# Altium schematic symbol library kmilo17pet-NSC_Interface.SchLib: 1433 symbols (part 40 of 51)
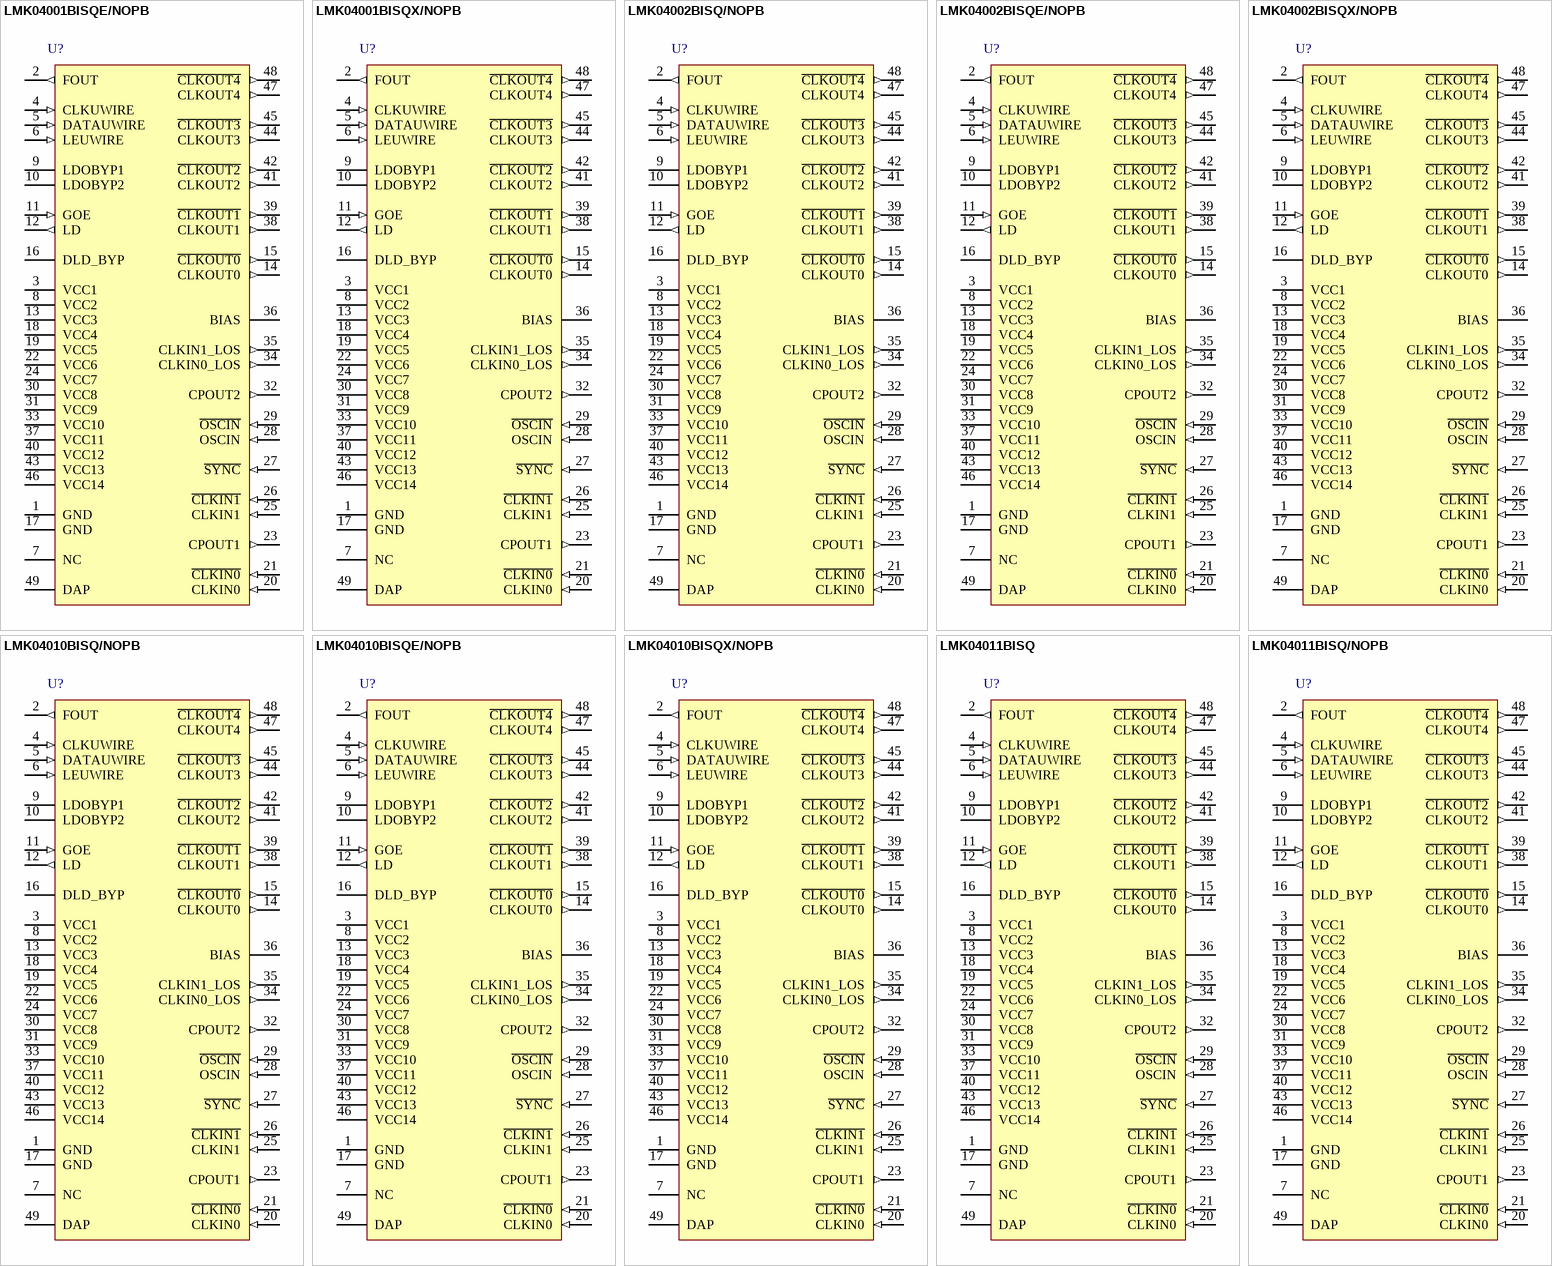
[diagram p163: symbols LMK04001BISQE/NOPB to LMK04011BISQ/NOPB]

## LMK04002BISQX/NOPB
designator U?
Low-Noise Clock Jitter Cleaner with Cascaded PLLs, 48-pin LLP, Pb-Free; PartNumber: LMK04002BISQX/NOPB; Manufacturer: National Semiconductor; PackageTopMarking: NS*UZXYTTE#*K04002BI; PowerWise: Y; CompType: Interface IC; DatasheetVersion: Jul-2009; PackageVersion: revB, May-2009; PackageReference: SQA48A; PackageDescription: LLP, Plastic, Quad, 7 x 7 x 0.8mm Body, 48 Lead, 0.5mm Pitch, No Pullback; RoHS: Y; PinCount: 48; High-Reliability: Y; Code_JEDEC: MO-220-WKKD-2; ComponentLink1Description: Manufacturer URL; ComponentLink1URL: http://www.national.com/; ComponentLink2Description: LMK04002 Datasheet; ComponentLink2URL: http://www.national.com/ds/LM/LMK04002.pdf; ComponentLink3Description: LMK04002 Web Page; ComponentLink3URL: http://www.national.com/pf/LM/LMK04002.html; ComponentLink4Description: SQA48A Package Page; ComponentLink4URL: http://www.national.com/packaging/folders/sqa48a.html
footprint SQA48A (QFN, 48-Leads, Body 7x7mm, Pitch 0.5mm, Thermal Pad 5.2x5.2mm, NSC Recommended)
pins: 1 GND (power), 2 FOUT (out), 3 VCC1 (power), 4 CLKUWIRE (in), 5 DATAUWIRE (in), 6 LEUWIRE (in), 7 NC, 8 VCC2 (power), 9 LDOBYP1, 10 LDOBYP2, 11 GOE (in), 12 LD (out), 13 VCC3 (power), 14 CLKOUT0 (out), 15 ~{CLKOUT0} (out), 16 DLD_BYP (power), 17 GND (power), 18 VCC4 (power), 19 VCC5 (power), 20 CLKIN0 (in), 21 ~{CLKIN0} (in), 22 VCC6 (power), 23 CPOUT1 (out), 24 VCC7 (power), 25 CLKIN1 (in), 26 ~{CLKIN1} (in), 27 ~{SYNC} (in), 28 OSCIN (in), 29 ~{OSCIN} (in), 30 VCC8 (power), 31 VCC9 (power), 32 CPOUT2 (out), 33 VCC10 (power), 34 CLKIN0_LOS (out), 35 CLKIN1_LOS (out), 36 BIAS, 37 VCC11 (power), 38 CLKOUT1 (out), 39 ~{CLKOUT1} (out), 40 VCC12 (power), 41 CLKOUT2 (out), 42 ~{CLKOUT2} (out), 43 VCC13 (power), 44 CLKOUT3 (out), 45 ~{CLKOUT3} (out), 46 VCC14 (power), 47 CLKOUT4 (out), 48 ~{CLKOUT4} (out), 49 DAP (power)

## LMK04010BISQ/NOPB
designator U?
Low-Noise Clock Jitter Cleaner with Cascaded PLLs, 48-pin LLP, Pb-Free; PartNumber: LMK04010BISQ/NOPB; Manufacturer: National Semiconductor; PackageTopMarking: NS*UZXYTTE#*K04010BI; PowerWise: Y; CompType: Interface IC; DatasheetVersion: Jul-2009; PackageVersion: revB, May-2009; PackageReference: SQA48A; PackageDescription: LLP, Plastic, Quad, 7 x 7 x 0.8mm Body, 48 Lead, 0.5mm Pitch, No Pullback; RoHS: Y; PinCount: 48; High-Reliability: Y; Code_JEDEC: MO-220-WKKD-2; ComponentLink1Description: Manufacturer URL; ComponentLink1URL: http://www.national.com/; ComponentLink2Description: LMK04010 Datasheet; ComponentLink2URL: http://www.national.com/ds/LM/LMK04010.pdf; ComponentLink3Description: LMK04010 Web Page; ComponentLink3URL: http://www.national.com/pf/LM/LMK04010.html; ComponentLink4Description: SQA48A Package Page; ComponentLink4URL: http://www.national.com/packaging/folders/sqa48a.html
footprint SQA48A (QFN, 48-Leads, Body 7x7mm, Pitch 0.5mm, Thermal Pad 5.2x5.2mm, NSC Recommended)
pins: 1 GND (power), 2 FOUT (out), 3 VCC1 (power), 4 CLKUWIRE (in), 5 DATAUWIRE (in), 6 LEUWIRE (in), 7 NC, 8 VCC2 (power), 9 LDOBYP1, 10 LDOBYP2, 11 GOE (in), 12 LD (out), 13 VCC3 (power), 14 CLKOUT0 (out), 15 ~{CLKOUT0} (out), 16 DLD_BYP (power), 17 GND (power), 18 VCC4 (power), 19 VCC5 (power), 20 CLKIN0 (in), 21 ~{CLKIN0} (in), 22 VCC6 (power), 23 CPOUT1 (out), 24 VCC7 (power), 25 CLKIN1 (in), 26 ~{CLKIN1} (in), 27 ~{SYNC} (in), 28 OSCIN (in), 29 ~{OSCIN} (in), 30 VCC8 (power), 31 VCC9 (power), 32 CPOUT2 (out), 33 VCC10 (power), 34 CLKIN0_LOS (out), 35 CLKIN1_LOS (out), 36 BIAS, 37 VCC11 (power), 38 CLKOUT1 (out), 39 ~{CLKOUT1} (out), 40 VCC12 (power), 41 CLKOUT2 (out), 42 ~{CLKOUT2} (out), 43 VCC13 (power), 44 CLKOUT3 (out), 45 ~{CLKOUT3} (out), 46 VCC14 (power), 47 CLKOUT4 (out), 48 ~{CLKOUT4} (out), 49 DAP (power)

## LMK04010BISQE/NOPB
designator U?
Low-Noise Clock Jitter Cleaner with Cascaded PLLs, 48-pin LLP, Pb-Free; PartNumber: LMK04010BISQE/NOPB; Manufacturer: National Semiconductor; PackageTopMarking: NS*UZXYTTE#*K04010BI; PowerWise: Y; CompType: Interface IC; DatasheetVersion: Jul-2009; PackageVersion: revB, May-2009; PackageReference: SQA48A; PackageDescription: LLP, Plastic, Quad, 7 x 7 x 0.8mm Body, 48 Lead, 0.5mm Pitch, No Pullback; RoHS: Y; PinCount: 48; High-Reliability: Y; Code_JEDEC: MO-220-WKKD-2; ComponentLink1Description: Manufacturer URL; ComponentLink1URL: http://www.national.com/; ComponentLink2Description: LMK04010 Datasheet; ComponentLink2URL: http://www.national.com/ds/LM/LMK04010.pdf; ComponentLink3Description: LMK04010 Web Page; ComponentLink3URL: http://www.national.com/pf/LM/LMK04010.html; ComponentLink4Description: SQA48A Package Page; ComponentLink4URL: http://www.national.com/packaging/folders/sqa48a.html
footprint SQA48A (QFN, 48-Leads, Body 7x7mm, Pitch 0.5mm, Thermal Pad 5.2x5.2mm, NSC Recommended)
pins: 1 GND (power), 2 FOUT (out), 3 VCC1 (power), 4 CLKUWIRE (in), 5 DATAUWIRE (in), 6 LEUWIRE (in), 7 NC, 8 VCC2 (power), 9 LDOBYP1, 10 LDOBYP2, 11 GOE (in), 12 LD (out), 13 VCC3 (power), 14 CLKOUT0 (out), 15 ~{CLKOUT0} (out), 16 DLD_BYP (power), 17 GND (power), 18 VCC4 (power), 19 VCC5 (power), 20 CLKIN0 (in), 21 ~{CLKIN0} (in), 22 VCC6 (power), 23 CPOUT1 (out), 24 VCC7 (power), 25 CLKIN1 (in), 26 ~{CLKIN1} (in), 27 ~{SYNC} (in), 28 OSCIN (in), 29 ~{OSCIN} (in), 30 VCC8 (power), 31 VCC9 (power), 32 CPOUT2 (out), 33 VCC10 (power), 34 CLKIN0_LOS (out), 35 CLKIN1_LOS (out), 36 BIAS, 37 VCC11 (power), 38 CLKOUT1 (out), 39 ~{CLKOUT1} (out), 40 VCC12 (power), 41 CLKOUT2 (out), 42 ~{CLKOUT2} (out), 43 VCC13 (power), 44 CLKOUT3 (out), 45 ~{CLKOUT3} (out), 46 VCC14 (power), 47 CLKOUT4 (out), 48 ~{CLKOUT4} (out), 49 DAP (power)

## LMK04010BISQX/NOPB
designator U?
Low-Noise Clock Jitter Cleaner with Cascaded PLLs, 48-pin LLP, Pb-Free; PartNumber: LMK04010BISQX/NOPB; Manufacturer: National Semiconductor; PackageTopMarking: NS*UZXYTTE#*K04010BI; PowerWise: Y; CompType: Interface IC; DatasheetVersion: Jul-2009; PackageVersion: revB, May-2009; PackageReference: SQA48A; PackageDescription: LLP, Plastic, Quad, 7 x 7 x 0.8mm Body, 48 Lead, 0.5mm Pitch, No Pullback; RoHS: Y; PinCount: 48; High-Reliability: Y; Code_JEDEC: MO-220-WKKD-2; ComponentLink1Description: Manufacturer URL; ComponentLink1URL: http://www.national.com/; ComponentLink2Description: LMK04010 Datasheet; ComponentLink2URL: http://www.national.com/ds/LM/LMK04010.pdf; ComponentLink3Description: LMK04010 Web Page; ComponentLink3URL: http://www.national.com/pf/LM/LMK04010.html; ComponentLink4Description: SQA48A Package Page; ComponentLink4URL: http://www.national.com/packaging/folders/sqa48a.html
footprint SQA48A (QFN, 48-Leads, Body 7x7mm, Pitch 0.5mm, Thermal Pad 5.2x5.2mm, NSC Recommended)
pins: 1 GND (power), 2 FOUT (out), 3 VCC1 (power), 4 CLKUWIRE (in), 5 DATAUWIRE (in), 6 LEUWIRE (in), 7 NC, 8 VCC2 (power), 9 LDOBYP1, 10 LDOBYP2, 11 GOE (in), 12 LD (out), 13 VCC3 (power), 14 CLKOUT0 (out), 15 ~{CLKOUT0} (out), 16 DLD_BYP (power), 17 GND (power), 18 VCC4 (power), 19 VCC5 (power), 20 CLKIN0 (in), 21 ~{CLKIN0} (in), 22 VCC6 (power), 23 CPOUT1 (out), 24 VCC7 (power), 25 CLKIN1 (in), 26 ~{CLKIN1} (in), 27 ~{SYNC} (in), 28 OSCIN (in), 29 ~{OSCIN} (in), 30 VCC8 (power), 31 VCC9 (power), 32 CPOUT2 (out), 33 VCC10 (power), 34 CLKIN0_LOS (out), 35 CLKIN1_LOS (out), 36 BIAS, 37 VCC11 (power), 38 CLKOUT1 (out), 39 ~{CLKOUT1} (out), 40 VCC12 (power), 41 CLKOUT2 (out), 42 ~{CLKOUT2} (out), 43 VCC13 (power), 44 CLKOUT3 (out), 45 ~{CLKOUT3} (out), 46 VCC14 (power), 47 CLKOUT4 (out), 48 ~{CLKOUT4} (out), 49 DAP (power)

## LMK04011BISQ
designator U?
Precision Clock Conditioners Low-Noise Clock Jitter Cleaner with Cascaded PLLs, 48-pin LLP; PartNumber: LMK04011BISQ; Manufacturer: National Semiconductor; PackageTopMarking: NS*UZXYTT*K04011BI; PowerWise: Y; CompType: Interface IC; DatasheetVersion: Jul-2009; PackageVersion: revB, May-2009; PackageReference: SQA48A; PackageDescription: LLP, Plastic, Quad, 7 x 7 x 0.8mm Body, 48 Lead, 0.5mm Pitch, No Pullback; RoHS: Y; PinCount: 48; High-Reliability: Y; Code_JEDEC: MO-220-WKKD-2; ComponentLink1Description: Manufacturer URL; ComponentLink1URL: http://www.national.com/; ComponentLink2Description: LMK04011B Datasheet; ComponentLink2URL: http://www.national.com/ds/LM/LMK04000.pdf; ComponentLink3Description: LMK04011B Web Page; ComponentLink3URL: http://www.national.com/pf/LM/LMK04011B.html; ComponentLink4Description: SQA48A Package Page; ComponentLink4URL: http://www.national.com/packaging/folders/sqa48a.html
footprint SQA48A (QFN, 48-Leads, Body 7x7mm, Pitch 0.5mm, Thermal Pad 5.2x5.2mm, NSC Recommended)
pins: 1 GND (power), 2 FOUT (out), 3 VCC1 (power), 4 CLKUWIRE (in), 5 DATAUWIRE (in), 6 LEUWIRE (in), 7 NC, 8 VCC2 (power), 9 LDOBYP1, 10 LDOBYP2, 11 GOE (in), 12 LD (out), 13 VCC3 (power), 14 CLKOUT0 (out), 15 ~{CLKOUT0} (out), 16 DLD_BYP (power), 17 GND (power), 18 VCC4 (power), 19 VCC5 (power), 20 CLKIN0 (in), 21 ~{CLKIN0} (in), 22 VCC6 (power), 23 CPOUT1 (out), 24 VCC7 (power), 25 CLKIN1 (in), 26 ~{CLKIN1} (in), 27 ~{SYNC} (in), 28 OSCIN (in), 29 ~{OSCIN} (in), 30 VCC8 (power), 31 VCC9 (power), 32 CPOUT2 (out), 33 VCC10 (power), 34 CLKIN0_LOS (out), 35 CLKIN1_LOS (out), 36 BIAS, 37 VCC11 (power), 38 CLKOUT1 (out), 39 ~{CLKOUT1} (out), 40 VCC12 (power), 41 CLKOUT2 (out), 42 ~{CLKOUT2} (out), 43 VCC13 (power), 44 CLKOUT3 (out), 45 ~{CLKOUT3} (out), 46 VCC14 (power), 47 CLKOUT4 (out), 48 ~{CLKOUT4} (out), 49 DAP (power)

## LMK04011BISQ/NOPB
designator U?
Low-Noise Clock Jitter Cleaner with Cascaded PLLs, 48-pin LLP, Pb-Free; PartNumber: LMK04011BISQ/NOPB; Manufacturer: National Semiconductor; PackageTopMarking: NS*UZXYTTE#*K04011BI; PowerWise: Y; CompType: Interface IC; DatasheetVersion: Jul-2009; PackageVersion: revB, May-2009; PackageReference: SQA48A; PackageDescription: LLP, Plastic, Quad, 7 x 7 x 0.8mm Body, 48 Lead, 0.5mm Pitch, No Pullback; RoHS: Y; PinCount: 48; High-Reliability: Y; Code_JEDEC: MO-220-WKKD-2; ComponentLink1Description: Manufacturer URL; ComponentLink1URL: http://www.national.com/; ComponentLink2Description: LMK04011 Datasheet; ComponentLink2URL: http://www.national.com/ds/LM/LMK04011.pdf; ComponentLink3Description: LMK04011 Web Page; ComponentLink3URL: http://www.national.com/pf/LM/LMK04011.html; ComponentLink4Description: SQA48A Package Page; ComponentLink4URL: http://www.national.com/packaging/folders/sqa48a.html
footprint SQA48A (QFN, 48-Leads, Body 7x7mm, Pitch 0.5mm, Thermal Pad 5.2x5.2mm, NSC Recommended)
pins: 1 GND (power), 2 FOUT (out), 3 VCC1 (power), 4 CLKUWIRE (in), 5 DATAUWIRE (in), 6 LEUWIRE (in), 7 NC, 8 VCC2 (power), 9 LDOBYP1, 10 LDOBYP2, 11 GOE (in), 12 LD (out), 13 VCC3 (power), 14 CLKOUT0 (out), 15 ~{CLKOUT0} (out), 16 DLD_BYP (power), 17 GND (power), 18 VCC4 (power), 19 VCC5 (power), 20 CLKIN0 (in), 21 ~{CLKIN0} (in), 22 VCC6 (power), 23 CPOUT1 (out), 24 VCC7 (power), 25 CLKIN1 (in), 26 ~{CLKIN1} (in), 27 ~{SYNC} (in), 28 OSCIN (in), 29 ~{OSCIN} (in), 30 VCC8 (power), 31 VCC9 (power), 32 CPOUT2 (out), 33 VCC10 (power), 34 CLKIN0_LOS (out), 35 CLKIN1_LOS (out), 36 BIAS, 37 VCC11 (power), 38 CLKOUT1 (out), 39 ~{CLKOUT1} (out), 40 VCC12 (power), 41 CLKOUT2 (out), 42 ~{CLKOUT2} (out), 43 VCC13 (power), 44 CLKOUT3 (out), 45 ~{CLKOUT3} (out), 46 VCC14 (power), 47 CLKOUT4 (out), 48 ~{CLKOUT4} (out), 49 DAP (power)

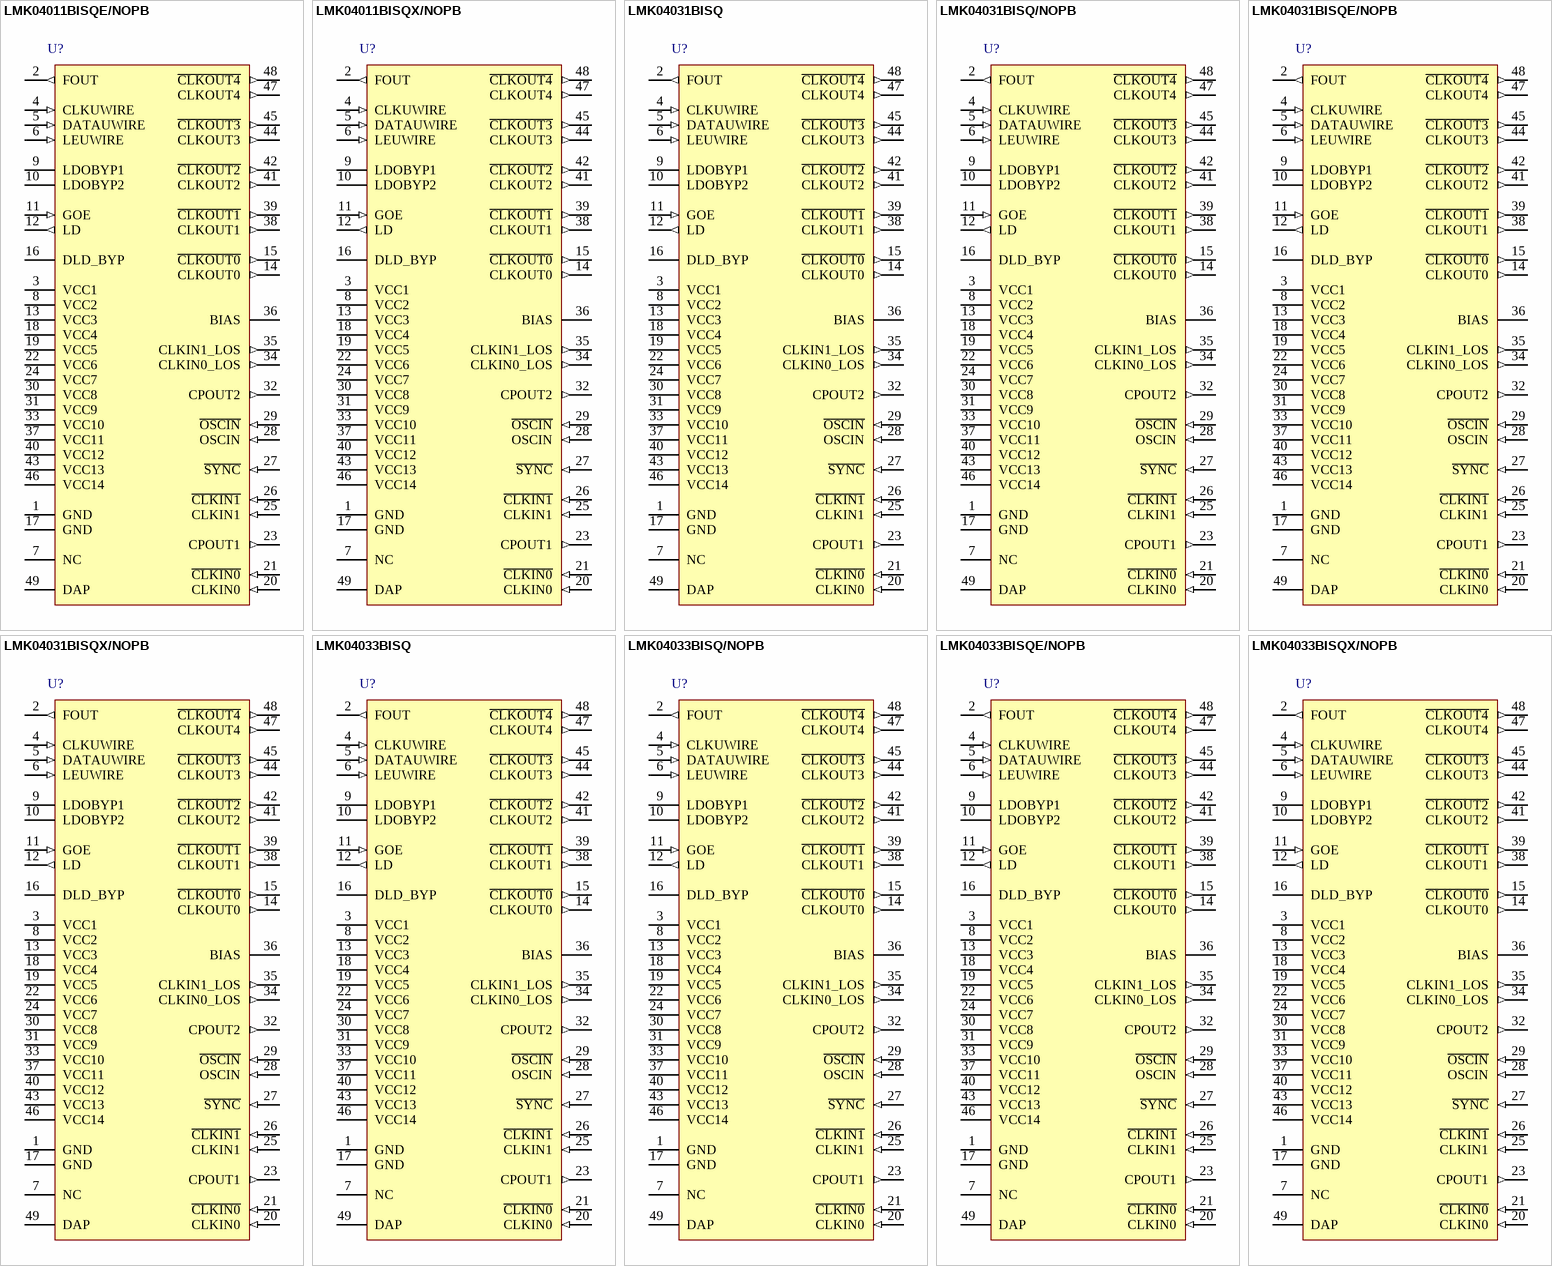
[diagram p99: symbols LMK04011BISQE/NOPB to LMK04033BISQX/NOPB]

## LMK04011BISQE/NOPB
designator U?
Low-Noise Clock Jitter Cleaner with Cascaded PLLs, 48-pin LLP, Pb-Free; PartNumber: LMK04011BISQE/NOPB; Manufacturer: National Semiconductor; PackageTopMarking: NS*UZXYTTE#*K04011BI; PowerWise: Y; CompType: Interface IC; DatasheetVersion: Jul-2009; PackageVersion: revB, May-2009; PackageReference: SQA48A; PackageDescription: LLP, Plastic, Quad, 7 x 7 x 0.8mm Body, 48 Lead, 0.5mm Pitch, No Pullback; RoHS: Y; PinCount: 48; High-Reliability: Y; Code_JEDEC: MO-220-WKKD-2; ComponentLink1Description: Manufacturer URL; ComponentLink1URL: http://www.national.com/; ComponentLink2Description: LMK04011 Datasheet; ComponentLink2URL: http://www.national.com/ds/LM/LMK04011.pdf; ComponentLink3Description: LMK04011 Web Page; ComponentLink3URL: http://www.national.com/pf/LM/LMK04011.html; ComponentLink4Description: SQA48A Package Page; ComponentLink4URL: http://www.national.com/packaging/folders/sqa48a.html
footprint SQA48A (QFN, 48-Leads, Body 7x7mm, Pitch 0.5mm, Thermal Pad 5.2x5.2mm, NSC Recommended)
pins: 1 GND (power), 2 FOUT (out), 3 VCC1 (power), 4 CLKUWIRE (in), 5 DATAUWIRE (in), 6 LEUWIRE (in), 7 NC, 8 VCC2 (power), 9 LDOBYP1, 10 LDOBYP2, 11 GOE (in), 12 LD (out), 13 VCC3 (power), 14 CLKOUT0 (out), 15 ~{CLKOUT0} (out), 16 DLD_BYP (power), 17 GND (power), 18 VCC4 (power), 19 VCC5 (power), 20 CLKIN0 (in), 21 ~{CLKIN0} (in), 22 VCC6 (power), 23 CPOUT1 (out), 24 VCC7 (power), 25 CLKIN1 (in), 26 ~{CLKIN1} (in), 27 ~{SYNC} (in), 28 OSCIN (in), 29 ~{OSCIN} (in), 30 VCC8 (power), 31 VCC9 (power), 32 CPOUT2 (out), 33 VCC10 (power), 34 CLKIN0_LOS (out), 35 CLKIN1_LOS (out), 36 BIAS, 37 VCC11 (power), 38 CLKOUT1 (out), 39 ~{CLKOUT1} (out), 40 VCC12 (power), 41 CLKOUT2 (out), 42 ~{CLKOUT2} (out), 43 VCC13 (power), 44 CLKOUT3 (out), 45 ~{CLKOUT3} (out), 46 VCC14 (power), 47 CLKOUT4 (out), 48 ~{CLKOUT4} (out), 49 DAP (power)

## LMK04011BISQX/NOPB
designator U?
Low-Noise Clock Jitter Cleaner with Cascaded PLLs, 48-pin LLP, Pb-Free; PartNumber: LMK04011BISQX/NOPB; Manufacturer: National Semiconductor; PackageTopMarking: NS*UZXYTTE#*K04011BI; PowerWise: Y; CompType: Interface IC; DatasheetVersion: Jul-2009; PackageVersion: revB, May-2009; PackageReference: SQA48A; PackageDescription: LLP, Plastic, Quad, 7 x 7 x 0.8mm Body, 48 Lead, 0.5mm Pitch, No Pullback; RoHS: Y; PinCount: 48; High-Reliability: Y; Code_JEDEC: MO-220-WKKD-2; ComponentLink1Description: Manufacturer URL; ComponentLink1URL: http://www.national.com/; ComponentLink2Description: LMK04011 Datasheet; ComponentLink2URL: http://www.national.com/ds/LM/LMK04011.pdf; ComponentLink3Description: LMK04011 Web Page; ComponentLink3URL: http://www.national.com/pf/LM/LMK04011.html; ComponentLink4Description: SQA48A Package Page; ComponentLink4URL: http://www.national.com/packaging/folders/sqa48a.html
footprint SQA48A (QFN, 48-Leads, Body 7x7mm, Pitch 0.5mm, Thermal Pad 5.2x5.2mm, NSC Recommended)
pins: 1 GND (power), 2 FOUT (out), 3 VCC1 (power), 4 CLKUWIRE (in), 5 DATAUWIRE (in), 6 LEUWIRE (in), 7 NC, 8 VCC2 (power), 9 LDOBYP1, 10 LDOBYP2, 11 GOE (in), 12 LD (out), 13 VCC3 (power), 14 CLKOUT0 (out), 15 ~{CLKOUT0} (out), 16 DLD_BYP (power), 17 GND (power), 18 VCC4 (power), 19 VCC5 (power), 20 CLKIN0 (in), 21 ~{CLKIN0} (in), 22 VCC6 (power), 23 CPOUT1 (out), 24 VCC7 (power), 25 CLKIN1 (in), 26 ~{CLKIN1} (in), 27 ~{SYNC} (in), 28 OSCIN (in), 29 ~{OSCIN} (in), 30 VCC8 (power), 31 VCC9 (power), 32 CPOUT2 (out), 33 VCC10 (power), 34 CLKIN0_LOS (out), 35 CLKIN1_LOS (out), 36 BIAS, 37 VCC11 (power), 38 CLKOUT1 (out), 39 ~{CLKOUT1} (out), 40 VCC12 (power), 41 CLKOUT2 (out), 42 ~{CLKOUT2} (out), 43 VCC13 (power), 44 CLKOUT3 (out), 45 ~{CLKOUT3} (out), 46 VCC14 (power), 47 CLKOUT4 (out), 48 ~{CLKOUT4} (out), 49 DAP (power)

## LMK04031BISQ
designator U?
Precision Clock Conditioners Low-Noise Clock Jitter Cleaner with Cascaded PLLs, 48-pin LLP; PartNumber: LMK04031BISQ; Manufacturer: National Semiconductor; PackageTopMarking: NS*UZXYTT*K04031BI; PowerWise: Y; CompType: Interface IC; DatasheetVersion: Jul-2009; PackageVersion: revB, May-2009; PackageReference: SQA48A; PackageDescription: LLP, Plastic, Quad, 7 x 7 x 0.8mm Body, 48 Lead, 0.5mm Pitch, No Pullback; RoHS: Y; PinCount: 48; High-Reliability: Y; Code_JEDEC: MO-220-WKKD-2; ComponentLink1Description: Manufacturer URL; ComponentLink1URL: http://www.national.com/; ComponentLink2Description: LMK04031B Datasheet; ComponentLink2URL: http://www.national.com/ds/LM/LMK04000.pdf; ComponentLink3Description: LMK04031B Web Page; ComponentLink3URL: http://www.national.com/pf/LM/LMK04031B.html; ComponentLink4Description: SQA48A Package Page; ComponentLink4URL: http://www.national.com/packaging/folders/sqa48a.html
footprint SQA48A (QFN, 48-Leads, Body 7x7mm, Pitch 0.5mm, Thermal Pad 5.2x5.2mm, NSC Recommended)
pins: 1 GND (power), 2 FOUT (out), 3 VCC1 (power), 4 CLKUWIRE (in), 5 DATAUWIRE (in), 6 LEUWIRE (in), 7 NC, 8 VCC2 (power), 9 LDOBYP1, 10 LDOBYP2, 11 GOE (in), 12 LD (out), 13 VCC3 (power), 14 CLKOUT0 (out), 15 ~{CLKOUT0} (out), 16 DLD_BYP (power), 17 GND (power), 18 VCC4 (power), 19 VCC5 (power), 20 CLKIN0 (in), 21 ~{CLKIN0} (in), 22 VCC6 (power), 23 CPOUT1 (out), 24 VCC7 (power), 25 CLKIN1 (in), 26 ~{CLKIN1} (in), 27 ~{SYNC} (in), 28 OSCIN (in), 29 ~{OSCIN} (in), 30 VCC8 (power), 31 VCC9 (power), 32 CPOUT2 (out), 33 VCC10 (power), 34 CLKIN0_LOS (out), 35 CLKIN1_LOS (out), 36 BIAS, 37 VCC11 (power), 38 CLKOUT1 (out), 39 ~{CLKOUT1} (out), 40 VCC12 (power), 41 CLKOUT2 (out), 42 ~{CLKOUT2} (out), 43 VCC13 (power), 44 CLKOUT3 (out), 45 ~{CLKOUT3} (out), 46 VCC14 (power), 47 CLKOUT4 (out), 48 ~{CLKOUT4} (out), 49 DAP (power)

## LMK04031BISQ/NOPB
designator U?
Low-Noise Clock Jitter Cleaner with Cascaded PLLs, 48-pin LLP, Pb-Free; PartNumber: LMK04031BISQ/NOPB; Manufacturer: National Semiconductor; PackageTopMarking: NS*UZXYTTE#*K04031BI; PowerWise: Y; CompType: Interface IC; DatasheetVersion: Jul-2009; PackageVersion: revB, May-2009; PackageReference: SQA48A; PackageDescription: LLP, Plastic, Quad, 7 x 7 x 0.8mm Body, 48 Lead, 0.5mm Pitch, No Pullback; RoHS: Y; PinCount: 48; High-Reliability: Y; Code_JEDEC: MO-220-WKKD-2; ComponentLink1Description: Manufacturer URL; ComponentLink1URL: http://www.national.com/; ComponentLink2Description: LMK04031 Datasheet; ComponentLink2URL: http://www.national.com/ds/LM/LMK04031.pdf; ComponentLink3Description: LMK04031 Web Page; ComponentLink3URL: http://www.national.com/pf/LM/LMK04031.html; ComponentLink4Description: SQA48A Package Page; ComponentLink4URL: http://www.national.com/packaging/folders/sqa48a.html
footprint SQA48A (QFN, 48-Leads, Body 7x7mm, Pitch 0.5mm, Thermal Pad 5.2x5.2mm, NSC Recommended)
pins: 1 GND (power), 2 FOUT (out), 3 VCC1 (power), 4 CLKUWIRE (in), 5 DATAUWIRE (in), 6 LEUWIRE (in), 7 NC, 8 VCC2 (power), 9 LDOBYP1, 10 LDOBYP2, 11 GOE (in), 12 LD (out), 13 VCC3 (power), 14 CLKOUT0 (out), 15 ~{CLKOUT0} (out), 16 DLD_BYP (power), 17 GND (power), 18 VCC4 (power), 19 VCC5 (power), 20 CLKIN0 (in), 21 ~{CLKIN0} (in), 22 VCC6 (power), 23 CPOUT1 (out), 24 VCC7 (power), 25 CLKIN1 (in), 26 ~{CLKIN1} (in), 27 ~{SYNC} (in), 28 OSCIN (in), 29 ~{OSCIN} (in), 30 VCC8 (power), 31 VCC9 (power), 32 CPOUT2 (out), 33 VCC10 (power), 34 CLKIN0_LOS (out), 35 CLKIN1_LOS (out), 36 BIAS, 37 VCC11 (power), 38 CLKOUT1 (out), 39 ~{CLKOUT1} (out), 40 VCC12 (power), 41 CLKOUT2 (out), 42 ~{CLKOUT2} (out), 43 VCC13 (power), 44 CLKOUT3 (out), 45 ~{CLKOUT3} (out), 46 VCC14 (power), 47 CLKOUT4 (out), 48 ~{CLKOUT4} (out), 49 DAP (power)

## LMK04031BISQE/NOPB
designator U?
Low-Noise Clock Jitter Cleaner with Cascaded PLLs, 48-pin LLP, Pb-Free; PartNumber: LMK04031BISQE/NOPB; Manufacturer: National Semiconductor; PackageTopMarking: NS*UZXYTTE#*K04031BI; PowerWise: Y; CompType: Interface IC; DatasheetVersion: Jul-2009; PackageVersion: revB, May-2009; PackageReference: SQA48A; PackageDescription: LLP, Plastic, Quad, 7 x 7 x 0.8mm Body, 48 Lead, 0.5mm Pitch, No Pullback; RoHS: Y; PinCount: 48; High-Reliability: Y; Code_JEDEC: MO-220-WKKD-2; ComponentLink1Description: Manufacturer URL; ComponentLink1URL: http://www.national.com/; ComponentLink2Description: LMK04031 Datasheet; ComponentLink2URL: http://www.national.com/ds/LM/LMK04031.pdf; ComponentLink3Description: LMK04031 Web Page; ComponentLink3URL: http://www.national.com/pf/LM/LMK04031.html; ComponentLink4Description: SQA48A Package Page; ComponentLink4URL: http://www.national.com/packaging/folders/sqa48a.html
footprint SQA48A (QFN, 48-Leads, Body 7x7mm, Pitch 0.5mm, Thermal Pad 5.2x5.2mm, NSC Recommended)
pins: 1 GND (power), 2 FOUT (out), 3 VCC1 (power), 4 CLKUWIRE (in), 5 DATAUWIRE (in), 6 LEUWIRE (in), 7 NC, 8 VCC2 (power), 9 LDOBYP1, 10 LDOBYP2, 11 GOE (in), 12 LD (out), 13 VCC3 (power), 14 CLKOUT0 (out), 15 ~{CLKOUT0} (out), 16 DLD_BYP (power), 17 GND (power), 18 VCC4 (power), 19 VCC5 (power), 20 CLKIN0 (in), 21 ~{CLKIN0} (in), 22 VCC6 (power), 23 CPOUT1 (out), 24 VCC7 (power), 25 CLKIN1 (in), 26 ~{CLKIN1} (in), 27 ~{SYNC} (in), 28 OSCIN (in), 29 ~{OSCIN} (in), 30 VCC8 (power), 31 VCC9 (power), 32 CPOUT2 (out), 33 VCC10 (power), 34 CLKIN0_LOS (out), 35 CLKIN1_LOS (out), 36 BIAS, 37 VCC11 (power), 38 CLKOUT1 (out), 39 ~{CLKOUT1} (out), 40 VCC12 (power), 41 CLKOUT2 (out), 42 ~{CLKOUT2} (out), 43 VCC13 (power), 44 CLKOUT3 (out), 45 ~{CLKOUT3} (out), 46 VCC14 (power), 47 CLKOUT4 (out), 48 ~{CLKOUT4} (out), 49 DAP (power)

## LMK04031BISQX/NOPB
designator U?
Low-Noise Clock Jitter Cleaner with Cascaded PLLs, 48-pin LLP, Pb-Free; PartNumber: LMK04031BISQX/NOPB; Manufacturer: National Semiconductor; PackageTopMarking: NS*UZXYTTE#*K04031BI; PowerWise: Y; CompType: Interface IC; DatasheetVersion: Jul-2009; PackageVersion: revB, May-2009; PackageReference: SQA48A; PackageDescription: LLP, Plastic, Quad, 7 x 7 x 0.8mm Body, 48 Lead, 0.5mm Pitch, No Pullback; RoHS: Y; PinCount: 48; High-Reliability: Y; Code_JEDEC: MO-220-WKKD-2; ComponentLink1Description: Manufacturer URL; ComponentLink1URL: http://www.national.com/; ComponentLink2Description: LMK04031 Datasheet; ComponentLink2URL: http://www.national.com/ds/LM/LMK04031.pdf; ComponentLink3Description: LMK04031 Web Page; ComponentLink3URL: http://www.national.com/pf/LM/LMK04031.html; ComponentLink4Description: SQA48A Package Page; ComponentLink4URL: http://www.national.com/packaging/folders/sqa48a.html
footprint SQA48A (QFN, 48-Leads, Body 7x7mm, Pitch 0.5mm, Thermal Pad 5.2x5.2mm, NSC Recommended)
pins: 1 GND (power), 2 FOUT (out), 3 VCC1 (power), 4 CLKUWIRE (in), 5 DATAUWIRE (in), 6 LEUWIRE (in), 7 NC, 8 VCC2 (power), 9 LDOBYP1, 10 LDOBYP2, 11 GOE (in), 12 LD (out), 13 VCC3 (power), 14 CLKOUT0 (out), 15 ~{CLKOUT0} (out), 16 DLD_BYP (power), 17 GND (power), 18 VCC4 (power), 19 VCC5 (power), 20 CLKIN0 (in), 21 ~{CLKIN0} (in), 22 VCC6 (power), 23 CPOUT1 (out), 24 VCC7 (power), 25 CLKIN1 (in), 26 ~{CLKIN1} (in), 27 ~{SYNC} (in), 28 OSCIN (in), 29 ~{OSCIN} (in), 30 VCC8 (power), 31 VCC9 (power), 32 CPOUT2 (out), 33 VCC10 (power), 34 CLKIN0_LOS (out), 35 CLKIN1_LOS (out), 36 BIAS, 37 VCC11 (power), 38 CLKOUT1 (out), 39 ~{CLKOUT1} (out), 40 VCC12 (power), 41 CLKOUT2 (out), 42 ~{CLKOUT2} (out), 43 VCC13 (power), 44 CLKOUT3 (out), 45 ~{CLKOUT3} (out), 46 VCC14 (power), 47 CLKOUT4 (out), 48 ~{CLKOUT4} (out), 49 DAP (power)

## LMK04033BISQ
designator U?
Precision Clock Conditioners Low-Noise Clock Jitter Cleaner with Cascaded PLLs, 48-pin LLP; PartNumber: LMK04033BISQ; Manufacturer: National Semiconductor; PackageTopMarking: NS*UZXYTT*K04033BI; PowerWise: Y; CompType: Interface IC; DatasheetVersion: Jul-2009; PackageVersion: revB, May-2009; PackageReference: SQA48A; PackageDescription: LLP, Plastic, Quad, 7 x 7 x 0.8mm Body, 48 Lead, 0.5mm Pitch, No Pullback; RoHS: Y; PinCount: 48; High-Reliability: Y; Code_JEDEC: MO-220-WKKD-2; ComponentLink1Description: Manufacturer URL; ComponentLink1URL: http://www.national.com/; ComponentLink2Description: LMK04033B Datasheet; ComponentLink2URL: http://www.national.com/ds/LM/LMK04000.pdf; ComponentLink3Description: LMK04033B Web Page; ComponentLink3URL: http://www.national.com/pf/LM/LMK04033B.html; ComponentLink4Description: SQA48A Package Page; ComponentLink4URL: http://www.national.com/packaging/folders/sqa48a.html
footprint SQA48A (QFN, 48-Leads, Body 7x7mm, Pitch 0.5mm, Thermal Pad 5.2x5.2mm, NSC Recommended)
pins: 1 GND (power), 2 FOUT (out), 3 VCC1 (power), 4 CLKUWIRE (in), 5 DATAUWIRE (in), 6 LEUWIRE (in), 7 NC, 8 VCC2 (power), 9 LDOBYP1, 10 LDOBYP2, 11 GOE (in), 12 LD (out), 13 VCC3 (power), 14 CLKOUT0 (out), 15 ~{CLKOUT0} (out), 16 DLD_BYP (power), 17 GND (power), 18 VCC4 (power), 19 VCC5 (power), 20 CLKIN0 (in), 21 ~{CLKIN0} (in), 22 VCC6 (power), 23 CPOUT1 (out), 24 VCC7 (power), 25 CLKIN1 (in), 26 ~{CLKIN1} (in), 27 ~{SYNC} (in), 28 OSCIN (in), 29 ~{OSCIN} (in), 30 VCC8 (power), 31 VCC9 (power), 32 CPOUT2 (out), 33 VCC10 (power), 34 CLKIN0_LOS (out), 35 CLKIN1_LOS (out), 36 BIAS, 37 VCC11 (power), 38 CLKOUT1 (out), 39 ~{CLKOUT1} (out), 40 VCC12 (power), 41 CLKOUT2 (out), 42 ~{CLKOUT2} (out), 43 VCC13 (power), 44 CLKOUT3 (out), 45 ~{CLKOUT3} (out), 46 VCC14 (power), 47 CLKOUT4 (out), 48 ~{CLKOUT4} (out), 49 DAP (power)

## LMK04033BISQ/NOPB
designator U?
Low-Noise Clock Jitter Cleaner with Cascaded PLLs, 48-pin LLP, Pb-Free; PartNumber: LMK04033BISQ/NOPB; Manufacturer: National Semiconductor; PackageTopMarking: NS*UZXYTTE#*K04033BI; PowerWise: Y; CompType: Interface IC; DatasheetVersion: Jul-2009; PackageVersion: revB, May-2009; PackageReference: SQA48A; PackageDescription: LLP, Plastic, Quad, 7 x 7 x 0.8mm Body, 48 Lead, 0.5mm Pitch, No Pullback; RoHS: Y; PinCount: 48; High-Reliability: Y; Code_JEDEC: MO-220-WKKD-2; ComponentLink1Description: Manufacturer URL; ComponentLink1URL: http://www.national.com/; ComponentLink2Description: LMK04033 Datasheet; ComponentLink2URL: http://www.national.com/ds/LM/LMK04033.pdf; ComponentLink3Description: LMK04033 Web Page; ComponentLink3URL: http://www.national.com/pf/LM/LMK04033.html; ComponentLink4Description: SQA48A Package Page; ComponentLink4URL: http://www.national.com/packaging/folders/sqa48a.html
footprint SQA48A (QFN, 48-Leads, Body 7x7mm, Pitch 0.5mm, Thermal Pad 5.2x5.2mm, NSC Recommended)
pins: 1 GND (power), 2 FOUT (out), 3 VCC1 (power), 4 CLKUWIRE (in), 5 DATAUWIRE (in), 6 LEUWIRE (in), 7 NC, 8 VCC2 (power), 9 LDOBYP1, 10 LDOBYP2, 11 GOE (in), 12 LD (out), 13 VCC3 (power), 14 CLKOUT0 (out), 15 ~{CLKOUT0} (out), 16 DLD_BYP (power), 17 GND (power), 18 VCC4 (power), 19 VCC5 (power), 20 CLKIN0 (in), 21 ~{CLKIN0} (in), 22 VCC6 (power), 23 CPOUT1 (out), 24 VCC7 (power), 25 CLKIN1 (in), 26 ~{CLKIN1} (in), 27 ~{SYNC} (in), 28 OSCIN (in), 29 ~{OSCIN} (in), 30 VCC8 (power), 31 VCC9 (power), 32 CPOUT2 (out), 33 VCC10 (power), 34 CLKIN0_LOS (out), 35 CLKIN1_LOS (out), 36 BIAS, 37 VCC11 (power), 38 CLKOUT1 (out), 39 ~{CLKOUT1} (out), 40 VCC12 (power), 41 CLKOUT2 (out), 42 ~{CLKOUT2} (out), 43 VCC13 (power), 44 CLKOUT3 (out), 45 ~{CLKOUT3} (out), 46 VCC14 (power), 47 CLKOUT4 (out), 48 ~{CLKOUT4} (out), 49 DAP (power)

## LMK04033BISQE/NOPB
designator U?
Low-Noise Clock Jitter Cleaner with Cascaded PLLs, 48-pin LLP, Pb-Free; PartNumber: LMK04033BISQE/NOPB; Manufacturer: National Semiconductor; PackageTopMarking: NS*UZXYTTE#*K04033BI; PowerWise: Y; CompType: Interface IC; DatasheetVersion: Jul-2009; PackageVersion: revB, May-2009; PackageReference: SQA48A; PackageDescription: LLP, Plastic, Quad, 7 x 7 x 0.8mm Body, 48 Lead, 0.5mm Pitch, No Pullback; RoHS: Y; PinCount: 48; High-Reliability: Y; Code_JEDEC: MO-220-WKKD-2; ComponentLink1Description: Manufacturer URL; ComponentLink1URL: http://www.national.com/; ComponentLink2Description: LMK04033 Datasheet; ComponentLink2URL: http://www.national.com/ds/LM/LMK04033.pdf; ComponentLink3Description: LMK04033 Web Page; ComponentLink3URL: http://www.national.com/pf/LM/LMK04033.html; ComponentLink4Description: SQA48A Package Page; ComponentLink4URL: http://www.national.com/packaging/folders/sqa48a.html
footprint SQA48A (QFN, 48-Leads, Body 7x7mm, Pitch 0.5mm, Thermal Pad 5.2x5.2mm, NSC Recommended)
pins: 1 GND (power), 2 FOUT (out), 3 VCC1 (power), 4 CLKUWIRE (in), 5 DATAUWIRE (in), 6 LEUWIRE (in), 7 NC, 8 VCC2 (power), 9 LDOBYP1, 10 LDOBYP2, 11 GOE (in), 12 LD (out), 13 VCC3 (power), 14 CLKOUT0 (out), 15 ~{CLKOUT0} (out), 16 DLD_BYP (power), 17 GND (power), 18 VCC4 (power), 19 VCC5 (power), 20 CLKIN0 (in), 21 ~{CLKIN0} (in), 22 VCC6 (power), 23 CPOUT1 (out), 24 VCC7 (power), 25 CLKIN1 (in), 26 ~{CLKIN1} (in), 27 ~{SYNC} (in), 28 OSCIN (in), 29 ~{OSCIN} (in), 30 VCC8 (power), 31 VCC9 (power), 32 CPOUT2 (out), 33 VCC10 (power), 34 CLKIN0_LOS (out), 35 CLKIN1_LOS (out), 36 BIAS, 37 VCC11 (power), 38 CLKOUT1 (out), 39 ~{CLKOUT1} (out), 40 VCC12 (power), 41 CLKOUT2 (out), 42 ~{CLKOUT2} (out), 43 VCC13 (power), 44 CLKOUT3 (out), 45 ~{CLKOUT3} (out), 46 VCC14 (power), 47 CLKOUT4 (out), 48 ~{CLKOUT4} (out), 49 DAP (power)

## LMK04033BISQX/NOPB
designator U?
Low-Noise Clock Jitter Cleaner with Cascaded PLLs, 48-pin LLP, Pb-Free; PartNumber: LMK04033BISQX/NOPB; Manufacturer: National Semiconductor; PackageTopMarking: NS*UZXYTTE#*K04033BI; PowerWise: Y; CompType: Interface IC; DatasheetVersion: Jul-2009; PackageVersion: revB, May-2009; PackageReference: SQA48A; PackageDescription: LLP, Plastic, Quad, 7 x 7 x 0.8mm Body, 48 Lead, 0.5mm Pitch, No Pullback; RoHS: Y; PinCount: 48; High-Reliability: Y; Code_JEDEC: MO-220-WKKD-2; ComponentLink1Description: Manufacturer URL; ComponentLink1URL: http://www.national.com/; ComponentLink2Description: LMK04033 Datasheet; ComponentLink2URL: http://www.national.com/ds/LM/LMK04033.pdf; ComponentLink3Description: LMK04033 Web Page; ComponentLink3URL: http://www.national.com/pf/LM/LMK04033.html; ComponentLink4Description: SQA48A Package Page; ComponentLink4URL: http://www.national.com/packaging/folders/sqa48a.html
footprint SQA48A (QFN, 48-Leads, Body 7x7mm, Pitch 0.5mm, Thermal Pad 5.2x5.2mm, NSC Recommended)
pins: 1 GND (power), 2 FOUT (out), 3 VCC1 (power), 4 CLKUWIRE (in), 5 DATAUWIRE (in), 6 LEUWIRE (in), 7 NC, 8 VCC2 (power), 9 LDOBYP1, 10 LDOBYP2, 11 GOE (in), 12 LD (out), 13 VCC3 (power), 14 CLKOUT0 (out), 15 ~{CLKOUT0} (out), 16 DLD_BYP (power), 17 GND (power), 18 VCC4 (power), 19 VCC5 (power), 20 CLKIN0 (in), 21 ~{CLKIN0} (in), 22 VCC6 (power), 23 CPOUT1 (out), 24 VCC7 (power), 25 CLKIN1 (in), 26 ~{CLKIN1} (in), 27 ~{SYNC} (in), 28 OSCIN (in), 29 ~{OSCIN} (in), 30 VCC8 (power), 31 VCC9 (power), 32 CPOUT2 (out), 33 VCC10 (power), 34 CLKIN0_LOS (out), 35 CLKIN1_LOS (out), 36 BIAS, 37 VCC11 (power), 38 CLKOUT1 (out), 39 ~{CLKOUT1} (out), 40 VCC12 (power), 41 CLKOUT2 (out), 42 ~{CLKOUT2} (out), 43 VCC13 (power), 44 CLKOUT3 (out), 45 ~{CLKOUT3} (out), 46 VCC14 (power), 47 CLKOUT4 (out), 48 ~{CLKOUT4} (out), 49 DAP (power)

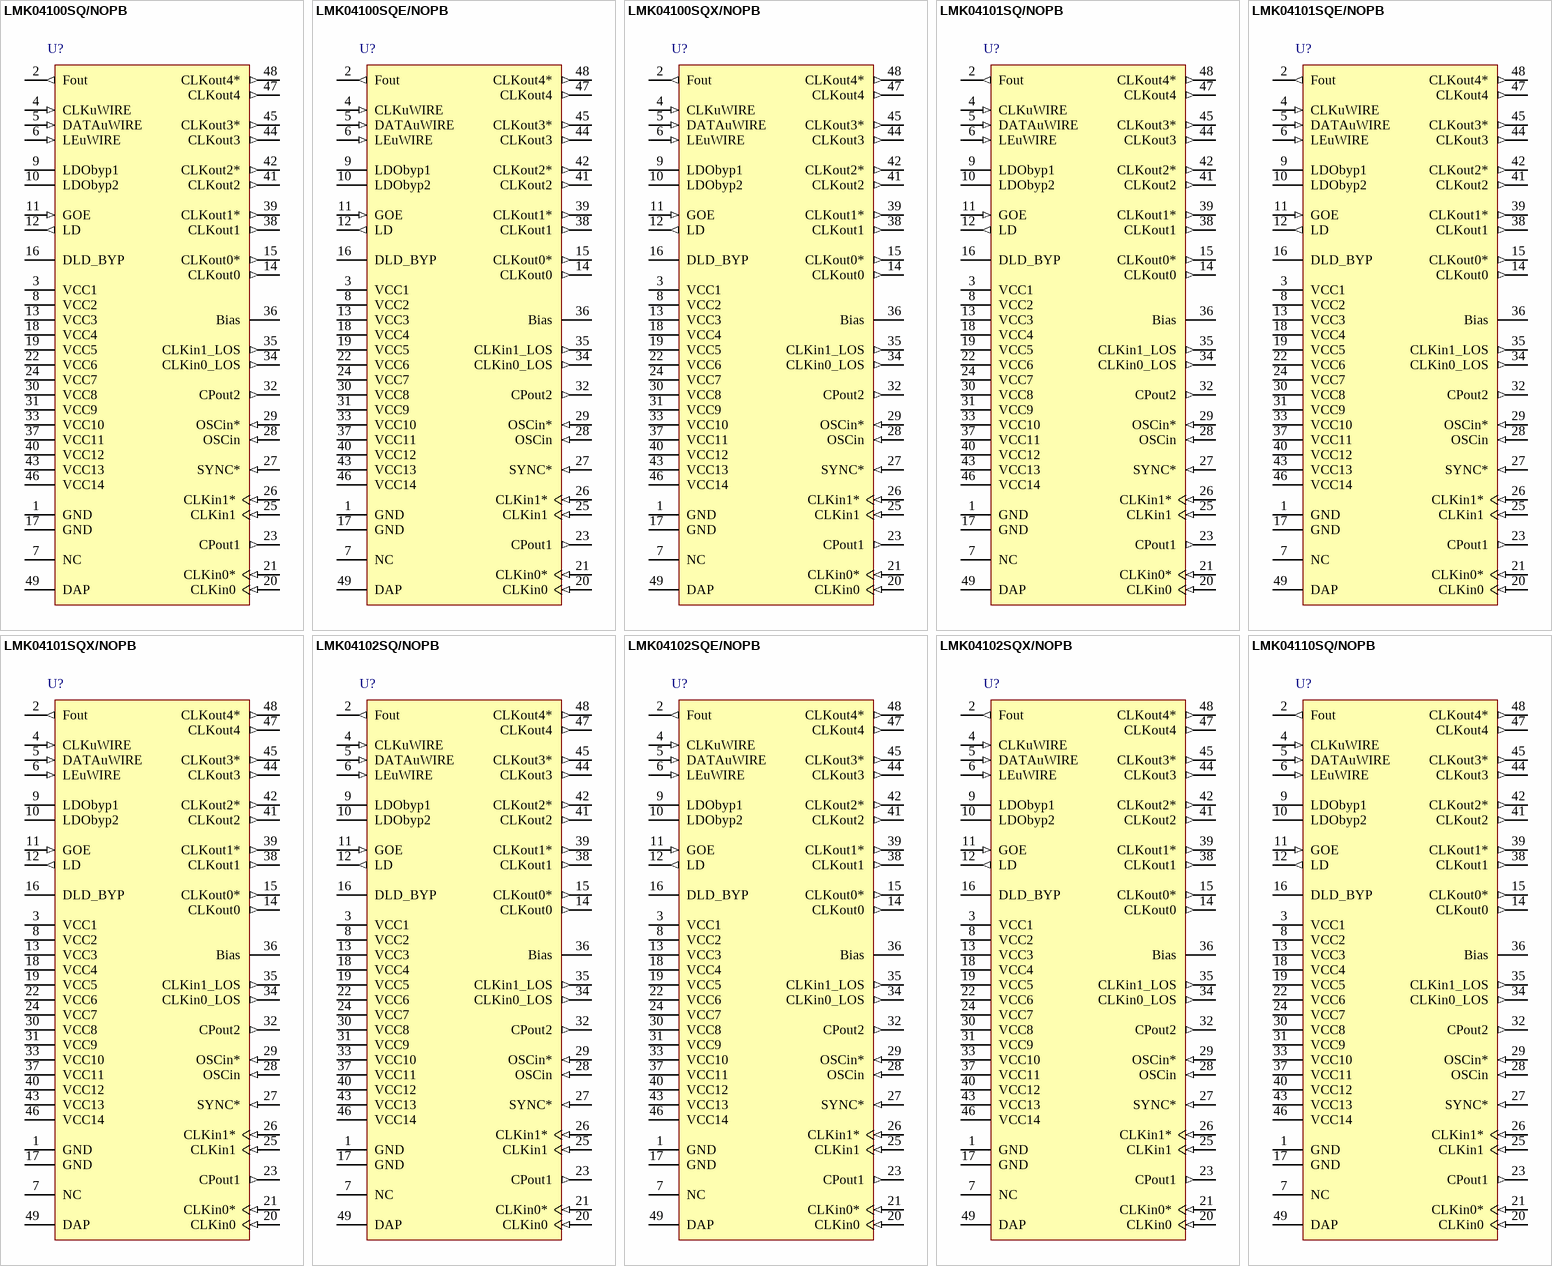
[diagram p100: symbols LMK04100SQ/NOPB to LMK04110SQ/NOPB]

## LMK04100SQ/NOPB
designator U?
Clock Jitter Cleaner with Cascaded PLLs, 1.2 GHz VCO, 48-pin LLP, 1000 Reel; PartNumber: LMK04100SQ/NOPB; Manufacturer: National Semiconductor; PackageTopMarking: NS*UZXYTTE#*LMK04100; PowerWise: Y; CompType: Interface IC; DatasheetVersion: Sep-2011; PackageVersion: revB, May-2009; PackageReference: SQA48A; PackageDescription: LLP, Plastic, Quad, 7 x 7 x 0.8mm Body, 48 Lead, 0.5mm Pitch, No Pullback; RoHS: Y; PinCount: 48; High-Reliability: Y; Code_JEDEC: MO-220-WKKD-2; ComponentLink1Description: Manufacturer URL; ComponentLink1URL: http://www.national.com/; ComponentLink2Description: LMK04100 Family Datasheet; ComponentLink2URL: http://www.national.com/ds/LM/LMK04100.pdf; ComponentLink3Description: LMK04100 Web Page; ComponentLink3URL: http://www.national.com/pf/LM/LMK04100.html; ComponentLink4Description: SQA48A Package Page; ComponentLink4URL: http://www.national.com/packaging/folders/sqa48a.html
footprint SQA48A (QFN, 48-Leads, Body 7x7mm, Pitch 0.5mm, Thermal Pad 5.2x5.2mm, NSC Recommended)
pins: 1 GND (power), 2 Fout (out), 3 VCC1 (power), 4 CLKuWIRE (in), 5 DATAuWIRE (in), 6 LEuWIRE (in), 7 NC, 8 VCC2 (power), 9 LDObyp1, 10 LDObyp2, 11 GOE (in), 12 LD (out), 13 VCC3 (power), 14 CLKout0 (out), 15 CLKout0* (out), 16 DLD_BYP, 17 GND (power), 18 VCC4 (power), 19 VCC5 (power), 20 CLKin0 (in), 21 CLKin0* (in), 22 VCC6 (power), 23 CPout1 (out), 24 VCC7 (power), 25 CLKin1 (in), 26 CLKin1* (in), 27 SYNC* (in), 28 OSCin (in), 29 OSCin* (in), 30 VCC8 (power), 31 VCC9 (power), 32 CPout2 (out), 33 VCC10 (power), 34 CLKin0_LOS (out), 35 CLKin1_LOS (out), 36 Bias, 37 VCC11 (power), 38 CLKout1 (out), 39 CLKout1* (out), 40 VCC12 (power), 41 CLKout2 (out), 42 CLKout2* (out), 43 VCC13 (power), 44 CLKout3 (out), 45 CLKout3* (out), 46 VCC14 (power), 47 CLKout4 (out), 48 CLKout4* (out), 49 DAP (power)

## LMK04100SQE/NOPB
designator U?
Clock Jitter Cleaner with Cascaded PLLs, 1.2 GHz VCO, 48-pin LLP, 250 Reel; PartNumber: LMK04100SQE/NOPB; Manufacturer: National Semiconductor; PackageTopMarking: NS*UZXYTTE#*LMK04100; PowerWise: Y; CompType: Interface IC; DatasheetVersion: Sep-2011; PackageVersion: revB, May-2009; PackageReference: SQA48A; PackageDescription: LLP, Plastic, Quad, 7 x 7 x 0.8mm Body, 48 Lead, 0.5mm Pitch, No Pullback; RoHS: Y; PinCount: 48; High-Reliability: Y; Code_JEDEC: MO-220-WKKD-2; ComponentLink1Description: Manufacturer URL; ComponentLink1URL: http://www.national.com/; ComponentLink2Description: LMK04100 Family Datasheet; ComponentLink2URL: http://www.national.com/ds/LM/LMK04100.pdf; ComponentLink3Description: LMK04100 Web Page; ComponentLink3URL: http://www.national.com/pf/LM/LMK04100.html; ComponentLink4Description: SQA48A Package Page; ComponentLink4URL: http://www.national.com/packaging/folders/sqa48a.html
footprint SQA48A (QFN, 48-Leads, Body 7x7mm, Pitch 0.5mm, Thermal Pad 5.2x5.2mm, NSC Recommended)
pins: 1 GND (power), 2 Fout (out), 3 VCC1 (power), 4 CLKuWIRE (in), 5 DATAuWIRE (in), 6 LEuWIRE (in), 7 NC, 8 VCC2 (power), 9 LDObyp1, 10 LDObyp2, 11 GOE (in), 12 LD (out), 13 VCC3 (power), 14 CLKout0 (out), 15 CLKout0* (out), 16 DLD_BYP, 17 GND (power), 18 VCC4 (power), 19 VCC5 (power), 20 CLKin0 (in), 21 CLKin0* (in), 22 VCC6 (power), 23 CPout1 (out), 24 VCC7 (power), 25 CLKin1 (in), 26 CLKin1* (in), 27 SYNC* (in), 28 OSCin (in), 29 OSCin* (in), 30 VCC8 (power), 31 VCC9 (power), 32 CPout2 (out), 33 VCC10 (power), 34 CLKin0_LOS (out), 35 CLKin1_LOS (out), 36 Bias, 37 VCC11 (power), 38 CLKout1 (out), 39 CLKout1* (out), 40 VCC12 (power), 41 CLKout2 (out), 42 CLKout2* (out), 43 VCC13 (power), 44 CLKout3 (out), 45 CLKout3* (out), 46 VCC14 (power), 47 CLKout4 (out), 48 CLKout4* (out), 49 DAP (power)

## LMK04100SQX/NOPB
designator U?
Clock Jitter Cleaner with Cascaded PLLs, 1.2 GHz VCO, 48-pin LLP, 2500 Reel; PartNumber: LMK04100SQX/NOPB; Manufacturer: National Semiconductor; PackageTopMarking: NS*UZXYTTE#*LMK04100; PowerWise: Y; CompType: Interface IC; DatasheetVersion: Sep-2011; PackageVersion: revB, May-2009; PackageReference: SQA48A; PackageDescription: LLP, Plastic, Quad, 7 x 7 x 0.8mm Body, 48 Lead, 0.5mm Pitch, No Pullback; RoHS: Y; PinCount: 48; High-Reliability: Y; Code_JEDEC: MO-220-WKKD-2; ComponentLink1Description: Manufacturer URL; ComponentLink1URL: http://www.national.com/; ComponentLink2Description: LMK04100 Family Datasheet; ComponentLink2URL: http://www.national.com/ds/LM/LMK04100.pdf; ComponentLink3Description: LMK04100 Web Page; ComponentLink3URL: http://www.national.com/pf/LM/LMK04100.html; ComponentLink4Description: SQA48A Package Page; ComponentLink4URL: http://www.national.com/packaging/folders/sqa48a.html
footprint SQA48A (QFN, 48-Leads, Body 7x7mm, Pitch 0.5mm, Thermal Pad 5.2x5.2mm, NSC Recommended)
pins: 1 GND (power), 2 Fout (out), 3 VCC1 (power), 4 CLKuWIRE (in), 5 DATAuWIRE (in), 6 LEuWIRE (in), 7 NC, 8 VCC2 (power), 9 LDObyp1, 10 LDObyp2, 11 GOE (in), 12 LD (out), 13 VCC3 (power), 14 CLKout0 (out), 15 CLKout0* (out), 16 DLD_BYP, 17 GND (power), 18 VCC4 (power), 19 VCC5 (power), 20 CLKin0 (in), 21 CLKin0* (in), 22 VCC6 (power), 23 CPout1 (out), 24 VCC7 (power), 25 CLKin1 (in), 26 CLKin1* (in), 27 SYNC* (in), 28 OSCin (in), 29 OSCin* (in), 30 VCC8 (power), 31 VCC9 (power), 32 CPout2 (out), 33 VCC10 (power), 34 CLKin0_LOS (out), 35 CLKin1_LOS (out), 36 Bias, 37 VCC11 (power), 38 CLKout1 (out), 39 CLKout1* (out), 40 VCC12 (power), 41 CLKout2 (out), 42 CLKout2* (out), 43 VCC13 (power), 44 CLKout3 (out), 45 CLKout3* (out), 46 VCC14 (power), 47 CLKout4 (out), 48 CLKout4* (out), 49 DAP (power)

## LMK04101SQ/NOPB
designator U?
Clock Jitter Cleaner with Cascaded PLLs, 1.5 GHz VCO, 48-pin LLP, 1000 Reel; PartNumber: LMK04101SQ/NOPB; Manufacturer: National Semiconductor; PackageTopMarking: NS*UZXYTTE#*LMK04101; PowerWise: Y; CompType: Interface IC; DatasheetVersion: Sep-2011; PackageVersion: revB, May-2009; PackageReference: SQA48A; PackageDescription: LLP, Plastic, Quad, 7 x 7 x 0.8mm Body, 48 Lead, 0.5mm Pitch, No Pullback; RoHS: Y; PinCount: 48; High-Reliability: Y; Code_JEDEC: MO-220-WKKD-2; ComponentLink1Description: Manufacturer URL; ComponentLink1URL: http://www.national.com/; ComponentLink2Description: LMK04100 Family Datasheet; ComponentLink2URL: http://www.national.com/ds/LM/LMK04100.pdf; ComponentLink3Description: LMK04101 Web Page; ComponentLink3URL: http://www.national.com/pf/LM/LMK04101.html; ComponentLink4Description: SQA48A Package Page; ComponentLink4URL: http://www.national.com/packaging/folders/sqa48a.html
footprint SQA48A (QFN, 48-Leads, Body 7x7mm, Pitch 0.5mm, Thermal Pad 5.2x5.2mm, NSC Recommended)
pins: 1 GND (power), 2 Fout (out), 3 VCC1 (power), 4 CLKuWIRE (in), 5 DATAuWIRE (in), 6 LEuWIRE (in), 7 NC, 8 VCC2 (power), 9 LDObyp1, 10 LDObyp2, 11 GOE (in), 12 LD (out), 13 VCC3 (power), 14 CLKout0 (out), 15 CLKout0* (out), 16 DLD_BYP, 17 GND (power), 18 VCC4 (power), 19 VCC5 (power), 20 CLKin0 (in), 21 CLKin0* (in), 22 VCC6 (power), 23 CPout1 (out), 24 VCC7 (power), 25 CLKin1 (in), 26 CLKin1* (in), 27 SYNC* (in), 28 OSCin (in), 29 OSCin* (in), 30 VCC8 (power), 31 VCC9 (power), 32 CPout2 (out), 33 VCC10 (power), 34 CLKin0_LOS (out), 35 CLKin1_LOS (out), 36 Bias, 37 VCC11 (power), 38 CLKout1 (out), 39 CLKout1* (out), 40 VCC12 (power), 41 CLKout2 (out), 42 CLKout2* (out), 43 VCC13 (power), 44 CLKout3 (out), 45 CLKout3* (out), 46 VCC14 (power), 47 CLKout4 (out), 48 CLKout4* (out), 49 DAP (power)

## LMK04101SQE/NOPB
designator U?
Clock Jitter Cleaner with Cascaded PLLs, 1.5 GHz VCO, 48-pin LLP, 250 Reel; PartNumber: LMK04101SQE/NOPB; Manufacturer: National Semiconductor; PackageTopMarking: NS*UZXYTTE#*LMK04101; PowerWise: Y; CompType: Interface IC; DatasheetVersion: Sep-2011; PackageVersion: revB, May-2009; PackageReference: SQA48A; PackageDescription: LLP, Plastic, Quad, 7 x 7 x 0.8mm Body, 48 Lead, 0.5mm Pitch, No Pullback; RoHS: Y; PinCount: 48; High-Reliability: Y; Code_JEDEC: MO-220-WKKD-2; ComponentLink1Description: Manufacturer URL; ComponentLink1URL: http://www.national.com/; ComponentLink2Description: LMK04100 Family Datasheet; ComponentLink2URL: http://www.national.com/ds/LM/LMK04100.pdf; ComponentLink3Description: LMK04101 Web Page; ComponentLink3URL: http://www.national.com/pf/LM/LMK04101.html; ComponentLink4Description: SQA48A Package Page; ComponentLink4URL: http://www.national.com/packaging/folders/sqa48a.html
footprint SQA48A (QFN, 48-Leads, Body 7x7mm, Pitch 0.5mm, Thermal Pad 5.2x5.2mm, NSC Recommended)
pins: 1 GND (power), 2 Fout (out), 3 VCC1 (power), 4 CLKuWIRE (in), 5 DATAuWIRE (in), 6 LEuWIRE (in), 7 NC, 8 VCC2 (power), 9 LDObyp1, 10 LDObyp2, 11 GOE (in), 12 LD (out), 13 VCC3 (power), 14 CLKout0 (out), 15 CLKout0* (out), 16 DLD_BYP, 17 GND (power), 18 VCC4 (power), 19 VCC5 (power), 20 CLKin0 (in), 21 CLKin0* (in), 22 VCC6 (power), 23 CPout1 (out), 24 VCC7 (power), 25 CLKin1 (in), 26 CLKin1* (in), 27 SYNC* (in), 28 OSCin (in), 29 OSCin* (in), 30 VCC8 (power), 31 VCC9 (power), 32 CPout2 (out), 33 VCC10 (power), 34 CLKin0_LOS (out), 35 CLKin1_LOS (out), 36 Bias, 37 VCC11 (power), 38 CLKout1 (out), 39 CLKout1* (out), 40 VCC12 (power), 41 CLKout2 (out), 42 CLKout2* (out), 43 VCC13 (power), 44 CLKout3 (out), 45 CLKout3* (out), 46 VCC14 (power), 47 CLKout4 (out), 48 CLKout4* (out), 49 DAP (power)

## LMK04101SQX/NOPB
designator U?
Clock Jitter Cleaner with Cascaded PLLs, 1.5 GHz VCO, 48-pin LLP, 2500 Reel; PartNumber: LMK04101SQX/NOPB; Manufacturer: National Semiconductor; PackageTopMarking: NS*UZXYTTE#*LMK04101; PowerWise: Y; CompType: Interface IC; DatasheetVersion: Sep-2011; PackageVersion: revB, May-2009; PackageReference: SQA48A; PackageDescription: LLP, Plastic, Quad, 7 x 7 x 0.8mm Body, 48 Lead, 0.5mm Pitch, No Pullback; RoHS: Y; PinCount: 48; High-Reliability: Y; Code_JEDEC: MO-220-WKKD-2; ComponentLink1Description: Manufacturer URL; ComponentLink1URL: http://www.national.com/; ComponentLink2Description: LMK04100 Family Datasheet; ComponentLink2URL: http://www.national.com/ds/LM/LMK04100.pdf; ComponentLink3Description: LMK04101 Web Page; ComponentLink3URL: http://www.national.com/pf/LM/LMK04101.html; ComponentLink4Description: SQA48A Package Page; ComponentLink4URL: http://www.national.com/packaging/folders/sqa48a.html
footprint SQA48A (QFN, 48-Leads, Body 7x7mm, Pitch 0.5mm, Thermal Pad 5.2x5.2mm, NSC Recommended)
pins: 1 GND (power), 2 Fout (out), 3 VCC1 (power), 4 CLKuWIRE (in), 5 DATAuWIRE (in), 6 LEuWIRE (in), 7 NC, 8 VCC2 (power), 9 LDObyp1, 10 LDObyp2, 11 GOE (in), 12 LD (out), 13 VCC3 (power), 14 CLKout0 (out), 15 CLKout0* (out), 16 DLD_BYP, 17 GND (power), 18 VCC4 (power), 19 VCC5 (power), 20 CLKin0 (in), 21 CLKin0* (in), 22 VCC6 (power), 23 CPout1 (out), 24 VCC7 (power), 25 CLKin1 (in), 26 CLKin1* (in), 27 SYNC* (in), 28 OSCin (in), 29 OSCin* (in), 30 VCC8 (power), 31 VCC9 (power), 32 CPout2 (out), 33 VCC10 (power), 34 CLKin0_LOS (out), 35 CLKin1_LOS (out), 36 Bias, 37 VCC11 (power), 38 CLKout1 (out), 39 CLKout1* (out), 40 VCC12 (power), 41 CLKout2 (out), 42 CLKout2* (out), 43 VCC13 (power), 44 CLKout3 (out), 45 CLKout3* (out), 46 VCC14 (power), 47 CLKout4 (out), 48 CLKout4* (out), 49 DAP (power)

## LMK04102SQ/NOPB
designator U?
Clock Jitter Cleaner with Cascaded PLLs, 1.6 GHz VCO, 48-pin LLP, 1000 Reel; PartNumber: LMK04102SQ/NOPB; Manufacturer: National Semiconductor; PackageTopMarking: NS*UZXYTTE#*LMK04102; PowerWise: Y; CompType: Interface IC; DatasheetVersion: Sep-2011; PackageVersion: revB, May-2009; PackageReference: SQA48A; PackageDescription: LLP, Plastic, Quad, 7 x 7 x 0.8mm Body, 48 Lead, 0.5mm Pitch, No Pullback; RoHS: Y; PinCount: 48; High-Reliability: Y; Code_JEDEC: MO-220-WKKD-2; ComponentLink1Description: Manufacturer URL; ComponentLink1URL: http://www.national.com/; ComponentLink2Description: LMK04100 Family Datasheet; ComponentLink2URL: http://www.national.com/ds/LM/LMK04100.pdf; ComponentLink3Description: LMK04102 Web Page; ComponentLink3URL: http://www.national.com/pf/LM/LMK04102.html; ComponentLink4Description: SQA48A Package Page; ComponentLink4URL: http://www.national.com/packaging/folders/sqa48a.html
footprint SQA48A (QFN, 48-Leads, Body 7x7mm, Pitch 0.5mm, Thermal Pad 5.2x5.2mm, NSC Recommended)
pins: 1 GND (power), 2 Fout (out), 3 VCC1 (power), 4 CLKuWIRE (in), 5 DATAuWIRE (in), 6 LEuWIRE (in), 7 NC, 8 VCC2 (power), 9 LDObyp1, 10 LDObyp2, 11 GOE (in), 12 LD (out), 13 VCC3 (power), 14 CLKout0 (out), 15 CLKout0* (out), 16 DLD_BYP, 17 GND (power), 18 VCC4 (power), 19 VCC5 (power), 20 CLKin0 (in), 21 CLKin0* (in), 22 VCC6 (power), 23 CPout1 (out), 24 VCC7 (power), 25 CLKin1 (in), 26 CLKin1* (in), 27 SYNC* (in), 28 OSCin (in), 29 OSCin* (in), 30 VCC8 (power), 31 VCC9 (power), 32 CPout2 (out), 33 VCC10 (power), 34 CLKin0_LOS (out), 35 CLKin1_LOS (out), 36 Bias, 37 VCC11 (power), 38 CLKout1 (out), 39 CLKout1* (out), 40 VCC12 (power), 41 CLKout2 (out), 42 CLKout2* (out), 43 VCC13 (power), 44 CLKout3 (out), 45 CLKout3* (out), 46 VCC14 (power), 47 CLKout4 (out), 48 CLKout4* (out), 49 DAP (power)

## LMK04102SQE/NOPB
designator U?
Clock Jitter Cleaner with Cascaded PLLs, 1.6 GHz VCO, 48-pin LLP, 250 Reel; PartNumber: LMK04102SQE/NOPB; Manufacturer: National Semiconductor; PackageTopMarking: NS*UZXYTTE#*LMK04102; PowerWise: Y; CompType: Interface IC; DatasheetVersion: Sep-2011; PackageVersion: revB, May-2009; PackageReference: SQA48A; PackageDescription: LLP, Plastic, Quad, 7 x 7 x 0.8mm Body, 48 Lead, 0.5mm Pitch, No Pullback; RoHS: Y; PinCount: 48; High-Reliability: Y; Code_JEDEC: MO-220-WKKD-2; ComponentLink1Description: Manufacturer URL; ComponentLink1URL: http://www.national.com/; ComponentLink2Description: LMK04100 Family Datasheet; ComponentLink2URL: http://www.national.com/ds/LM/LMK04100.pdf; ComponentLink3Description: LMK04102 Web Page; ComponentLink3URL: http://www.national.com/pf/LM/LMK04102.html; ComponentLink4Description: SQA48A Package Page; ComponentLink4URL: http://www.national.com/packaging/folders/sqa48a.html
footprint SQA48A (QFN, 48-Leads, Body 7x7mm, Pitch 0.5mm, Thermal Pad 5.2x5.2mm, NSC Recommended)
pins: 1 GND (power), 2 Fout (out), 3 VCC1 (power), 4 CLKuWIRE (in), 5 DATAuWIRE (in), 6 LEuWIRE (in), 7 NC, 8 VCC2 (power), 9 LDObyp1, 10 LDObyp2, 11 GOE (in), 12 LD (out), 13 VCC3 (power), 14 CLKout0 (out), 15 CLKout0* (out), 16 DLD_BYP, 17 GND (power), 18 VCC4 (power), 19 VCC5 (power), 20 CLKin0 (in), 21 CLKin0* (in), 22 VCC6 (power), 23 CPout1 (out), 24 VCC7 (power), 25 CLKin1 (in), 26 CLKin1* (in), 27 SYNC* (in), 28 OSCin (in), 29 OSCin* (in), 30 VCC8 (power), 31 VCC9 (power), 32 CPout2 (out), 33 VCC10 (power), 34 CLKin0_LOS (out), 35 CLKin1_LOS (out), 36 Bias, 37 VCC11 (power), 38 CLKout1 (out), 39 CLKout1* (out), 40 VCC12 (power), 41 CLKout2 (out), 42 CLKout2* (out), 43 VCC13 (power), 44 CLKout3 (out), 45 CLKout3* (out), 46 VCC14 (power), 47 CLKout4 (out), 48 CLKout4* (out), 49 DAP (power)

## LMK04102SQX/NOPB
designator U?
Clock Jitter Cleaner with Cascaded PLLs, 1.6 GHz VCO, 48-pin LLP, 2500 Reel; PartNumber: LMK04102SQX/NOPB; Manufacturer: National Semiconductor; PackageTopMarking: NS*UZXYTTE#*LMK04102; PowerWise: Y; CompType: Interface IC; DatasheetVersion: Sep-2011; PackageVersion: revB, May-2009; PackageReference: SQA48A; PackageDescription: LLP, Plastic, Quad, 7 x 7 x 0.8mm Body, 48 Lead, 0.5mm Pitch, No Pullback; RoHS: Y; PinCount: 48; High-Reliability: Y; Code_JEDEC: MO-220-WKKD-2; ComponentLink1Description: Manufacturer URL; ComponentLink1URL: http://www.national.com/; ComponentLink2Description: LMK04100 Family Datasheet; ComponentLink2URL: http://www.national.com/ds/LM/LMK04100.pdf; ComponentLink3Description: LMK04102 Web Page; ComponentLink3URL: http://www.national.com/pf/LM/LMK04102.html; ComponentLink4Description: SQA48A Package Page; ComponentLink4URL: http://www.national.com/packaging/folders/sqa48a.html
footprint SQA48A (QFN, 48-Leads, Body 7x7mm, Pitch 0.5mm, Thermal Pad 5.2x5.2mm, NSC Recommended)
pins: 1 GND (power), 2 Fout (out), 3 VCC1 (power), 4 CLKuWIRE (in), 5 DATAuWIRE (in), 6 LEuWIRE (in), 7 NC, 8 VCC2 (power), 9 LDObyp1, 10 LDObyp2, 11 GOE (in), 12 LD (out), 13 VCC3 (power), 14 CLKout0 (out), 15 CLKout0* (out), 16 DLD_BYP, 17 GND (power), 18 VCC4 (power), 19 VCC5 (power), 20 CLKin0 (in), 21 CLKin0* (in), 22 VCC6 (power), 23 CPout1 (out), 24 VCC7 (power), 25 CLKin1 (in), 26 CLKin1* (in), 27 SYNC* (in), 28 OSCin (in), 29 OSCin* (in), 30 VCC8 (power), 31 VCC9 (power), 32 CPout2 (out), 33 VCC10 (power), 34 CLKin0_LOS (out), 35 CLKin1_LOS (out), 36 Bias, 37 VCC11 (power), 38 CLKout1 (out), 39 CLKout1* (out), 40 VCC12 (power), 41 CLKout2 (out), 42 CLKout2* (out), 43 VCC13 (power), 44 CLKout3 (out), 45 CLKout3* (out), 46 VCC14 (power), 47 CLKout4 (out), 48 CLKout4* (out), 49 DAP (power)

## LMK04110SQ/NOPB
designator U?
Clock Jitter Cleaner with Cascaded PLLs, 1.2 GHz VCO, 48-pin LLP, 1000 Reel; PartNumber: LMK04110SQ/NOPB; Manufacturer: National Semiconductor; PackageTopMarking: NS*UZXYTTE#*LMK04110; PowerWise: Y; CompType: Interface IC; DatasheetVersion: Sep-2011; PackageVersion: revB, May-2009; PackageReference: SQA48A; PackageDescription: LLP, Plastic, Quad, 7 x 7 x 0.8mm Body, 48 Lead, 0.5mm Pitch, No Pullback; RoHS: Y; PinCount: 48; High-Reliability: Y; Code_JEDEC: MO-220-WKKD-2; ComponentLink1Description: Manufacturer URL; ComponentLink1URL: http://www.national.com/; ComponentLink2Description: LMK04100 Family Datasheet; ComponentLink2URL: http://www.national.com/ds/LM/LMK04100.pdf; ComponentLink3Description: LMK04110 Web Page; ComponentLink3URL: http://www.national.com/pf/LM/LMK04110.html; ComponentLink4Description: SQA48A Package Page; ComponentLink4URL: http://www.national.com/packaging/folders/sqa48a.html
footprint SQA48A (QFN, 48-Leads, Body 7x7mm, Pitch 0.5mm, Thermal Pad 5.2x5.2mm, NSC Recommended)
pins: 1 GND (power), 2 Fout (out), 3 VCC1 (power), 4 CLKuWIRE (in), 5 DATAuWIRE (in), 6 LEuWIRE (in), 7 NC, 8 VCC2 (power), 9 LDObyp1, 10 LDObyp2, 11 GOE (in), 12 LD (out), 13 VCC3 (power), 14 CLKout0 (out), 15 CLKout0* (out), 16 DLD_BYP, 17 GND (power), 18 VCC4 (power), 19 VCC5 (power), 20 CLKin0 (in), 21 CLKin0* (in), 22 VCC6 (power), 23 CPout1 (out), 24 VCC7 (power), 25 CLKin1 (in), 26 CLKin1* (in), 27 SYNC* (in), 28 OSCin (in), 29 OSCin* (in), 30 VCC8 (power), 31 VCC9 (power), 32 CPout2 (out), 33 VCC10 (power), 34 CLKin0_LOS (out), 35 CLKin1_LOS (out), 36 Bias, 37 VCC11 (power), 38 CLKout1 (out), 39 CLKout1* (out), 40 VCC12 (power), 41 CLKout2 (out), 42 CLKout2* (out), 43 VCC13 (power), 44 CLKout3 (out), 45 CLKout3* (out), 46 VCC14 (power), 47 CLKout4 (out), 48 CLKout4* (out), 49 DAP (power)

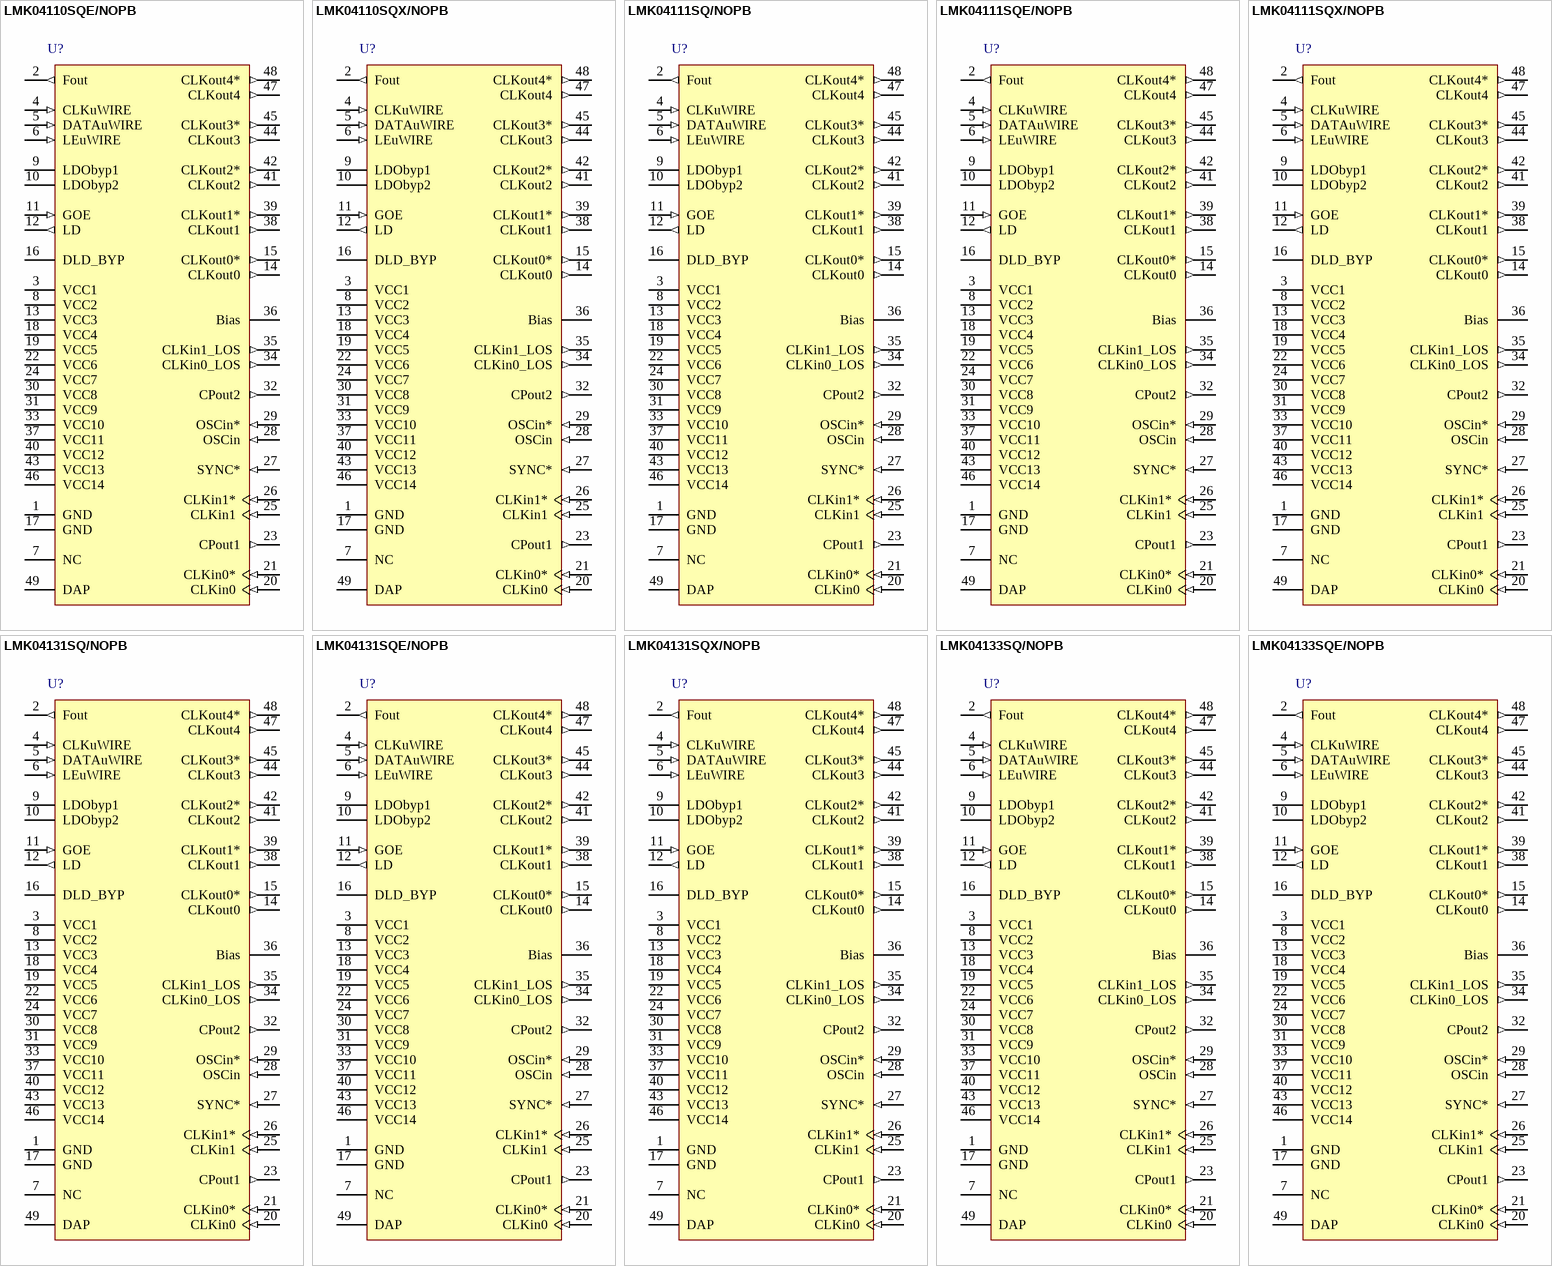
[diagram p101: symbols LMK04110SQE/NOPB to LMK04133SQE/NOPB]